# Altium schematic symbol library LaunchyIgnitionParts.SchLib: 1 symbol
Pins are listed as number, name and electrical type; pins without a type are passive.

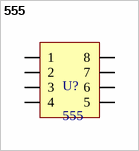
[diagram p0: symbol 555]

## 555
designator U?
IC OSC SGL TIMER 2.1MHZ 8-SOIC; Manufacturer Part Number: TLC555CDR
pins: 1, 2, 3, 4, 5, 6, 7, 8